# Altium footprint library 5V Buck 17mm x 22mm.PcbLib: 1 footprints
Each footprint in its own frame and in the unit in brackets; x right, y up, seen from the top. Pads: shape width x height; smd on the part's side, far side on the other; paste and mask are expansions set on the pad; w line width, h text height; cw(c..) or ccw(c..) is an arc to the next point about the centre after c.
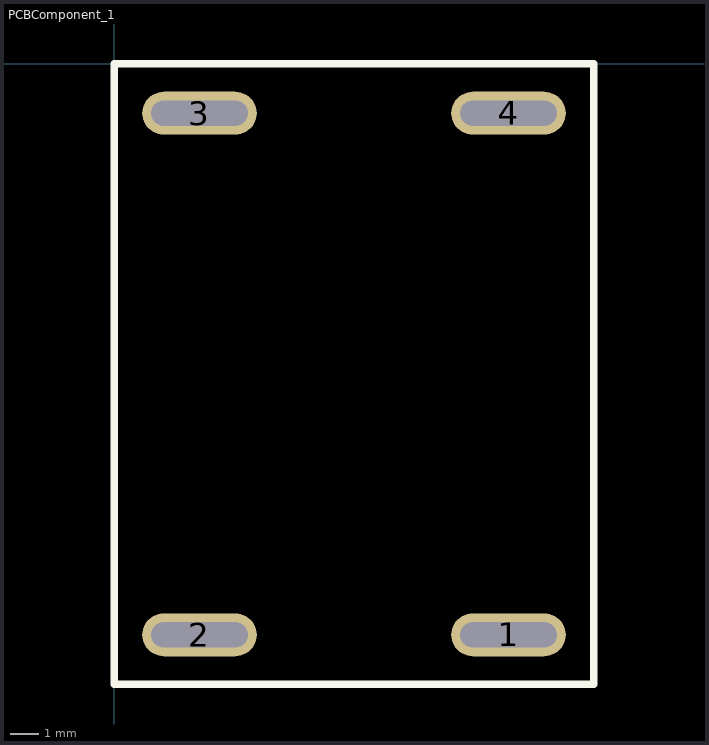
[diagram p0: the footprint, top view; thin cyan lines are the x and y axes]

## PCBComponent_1 [mil]
pads (4):
  oval 160x60 hole 35 slot 135 at 0 deg: 1(550.39,-797.24) 2(118.9,-797.24) 3(118.9,-68.9) 4(550.39,-68.9)
Top Overlay:
  lines w10: 0,-866.14 0,0 669.29,0 669.29,-866.14 0,-866.14